# Altium footprint library HyTechDevicesPCB.PcbLib: 6 footprints
Each footprint in its own frame and in the unit in brackets; x right, y up, seen from the top. Pads: shape width x height; smd on the part's side, far side on the other; paste and mask are expansions set on the pad; w line width, h text height; cw(c..) or ccw(c..) is an arc to the next point about the centre after c.
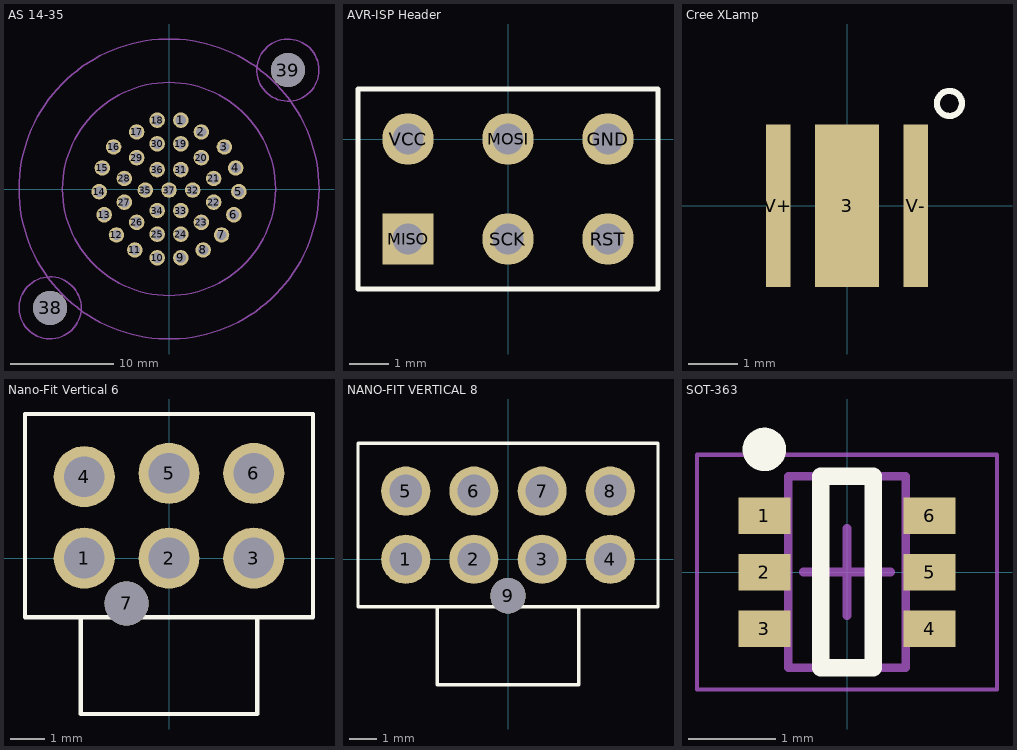
[diagram p0: the footprints below, top view; thin cyan lines are the x and y axes]

## AS 14-35 [mm] "35 pin autosport"
pads (39):
  round 1.5 hole 1: 1(1.143,6.655) 2(3.124,5.512) 3(5.359,4.064) 4(6.452,2.032) 5(6.756,-0.254) 6(6.274,-2.489) 7(5.08,-4.445) 8(3.302,-5.893) 9(1.143,-6.655) 10(-1.143,-6.655) 11(-3.302,-5.893) 12(-5.08,-4.445) 13(-6.274,-2.489) 14(-6.756,-0.254) 15(-6.452,2.032) 16(-5.359,4.064) 17(-3.124,5.512) 18(-1.143,6.655) 19(1.143,4.369) 20(3.124,3.023) 21(4.318,1.016) 22(4.318,-1.27) 23(3.124,-3.226) 24(1.143,-4.369) 25(-1.143,-4.369) 26(-3.124,-3.226) 27(-4.318,-1.27) 28(-4.318,1.016) 29(-3.124,3.023) 30(-1.143,4.369) 31(1.143,1.88) 32(2.286,-0.102) 33(1.143,-2.083) 34(-1.143,-2.083) 35(-2.286,-0.102) 36(-1.143,1.88) 37(0,-0.102)
  round 3.3 hole 3.3 unplated: 38(-11.491,-11.491) 39(11.491,11.491)
Mechanical 1:
  circle w0.127: c0,0 r14.5
  circle w0.127: c0,0 r10.3
Mechanical 15:
  circle w0.127: c11.491,11.491 r3
  circle w0.127: c-11.491,-11.491 r3
3D body "AS214-35PN.STEP": height 31.19, standoff -2.5, extent -15.915,-15.914 15.916,15.912

## AVR-ISP Header [mm]
pads (6):
  round 1.308 / inner round 1.308 / far side round 0.8 hole 0.8: GND(2.54,0) MOSI(0,0) RST(2.54,-2.54) SCK(0,-2.54) VCC(-2.54,0)
  rect 1.308x1.308 / inner round 1.308 / far side round 0.8 hole 0.8: MISO(-2.54,-2.54)
Top Overlay:
  lines w0.127: -3.81,-3.81 -3.81,1.27 3.81,1.27 3.81,-3.81 -3.81,-3.81

## Cree XLamp [mm] "XP-E2"
pads (3):
  rect 1.3x3.3 smd: 3(0,0)
  rect 0.5x3.3 smd: V+(-1.4,0) V-(1.4,0)
Top Overlay:
  circle w0.127: c2.083,2.083 r0.254
Keep-Out Layer:
  region: 2.5,0.3
3D body "XLamp_XPG2_3D_STEP.stp": height 2.26, standoff 0, extent -1.725,-1.725 1.725,1.725

## Nano-Fit Vertical 6 [mm]
pads (7):
  round 1.8 hole 1.2: 1(-2.5,0) 2(0,0) 3(2.5,0) 4(-2.5,2.4) 5(0,2.5) 6(2.5,2.5)
  round 1.3 hole 1.3 unplated: 7(-1.25,-1.34)
Top Overlay:
  lines w0.127: -2.6,-1.75 -2.6,-4.6 2.6,-4.6 2.6,-1.75 ; -4.25,-1.75 -4.25,4.25 4.25,4.25 4.25,-1.75 -4.25,-1.75
3D body "1053101206.stp": height 10.51, standoff -3.2, extent -4.22,-4.6 4.22,4.24

## NANO-FIT VERTICAL 8 [mm]
pads (9):
  round 1.8 hole 1.2: 1(-3.75,0) 2(-1.25,0) 3(1.25,0) 4(3.75,0) 5(-3.75,2.5) 6(-1.25,2.5) 7(1.25,2.5) 8(3.75,2.5)
  round 1.3 hole 1.3 unplated: 9(0,-1.34)
Top Overlay:
  lines w0.127: -2.6,-1.75 -2.6,-4.6 2.6,-4.6 2.6,-1.75 ; -5.5,-1.75 5.5,-1.75 5.5,4.25 -5.5,4.25 -5.5,-1.75
3D body "1053101208.stp": height 10.51, standoff -3.2, extent -5.47,-4.575 5.47,4.265

## SOT-363 [mm]
pads (6):
  rect 0.6x0.42 smd: 1(-0.95,0.65) 2(-0.95,0) 3(-0.95,-0.65) 4(0.95,-0.65) 5(0.95,0) 6(0.95,0.65)
Top Overlay:
  circle w0.25: c-0.95,1.41 r0.125
  lines w0.2: -0.3,-1.1 -0.3,1.1 0.3,1.1 0.3,-1.1 -0.3,-1.1
Mechanical 13:
  lines w0.1: -0.675,-1.1 0.675,-1.1 0.675,1.1 -0.675,1.1 -0.675,-1.1
Mechanical 15:
  lines w0.05: -1.725,-1.35 1.725,-1.35 1.725,1.35 -1.725,1.35 -1.725,-1.35
  lines w0.1: -0.5,0 0.5,0 ; 0,-0.5 0,0.5
3D body "SOT-363.STEP": height 1.05, standoff 0, extent -1.058,-1.1 1.058,1.1